# EAGLE library part LED-3A3C (library led-3a3c)
6-Pin Superflux
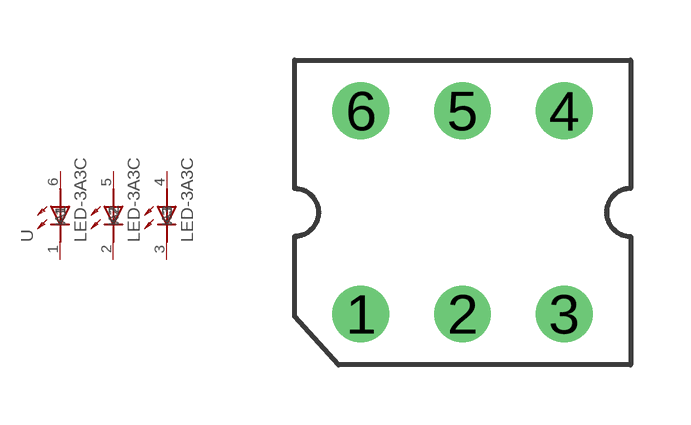
[diagram p0: symbol with the pads of LED-3A3C; footprint LED-3A3C]

Designator prefix -

## LED-3A3C  [LED-3A3C]
1  K1  out
2  K2  out
3  K3  out
4  A3  in
5  A2  in
6  A1  in

## Footprint LED-3A3C (pad centres in mm)
drill 0.9 pad 1.422 round: 1 -2.54,-2.54; 2 0,-2.54; 3 2.54,-2.54; 4 2.54,2.54; 5 0,2.54; 6 -2.54,2.54